# Altium integrated library Microchip PIC18.IntLib: 1897 symbols (part 38 of 110)
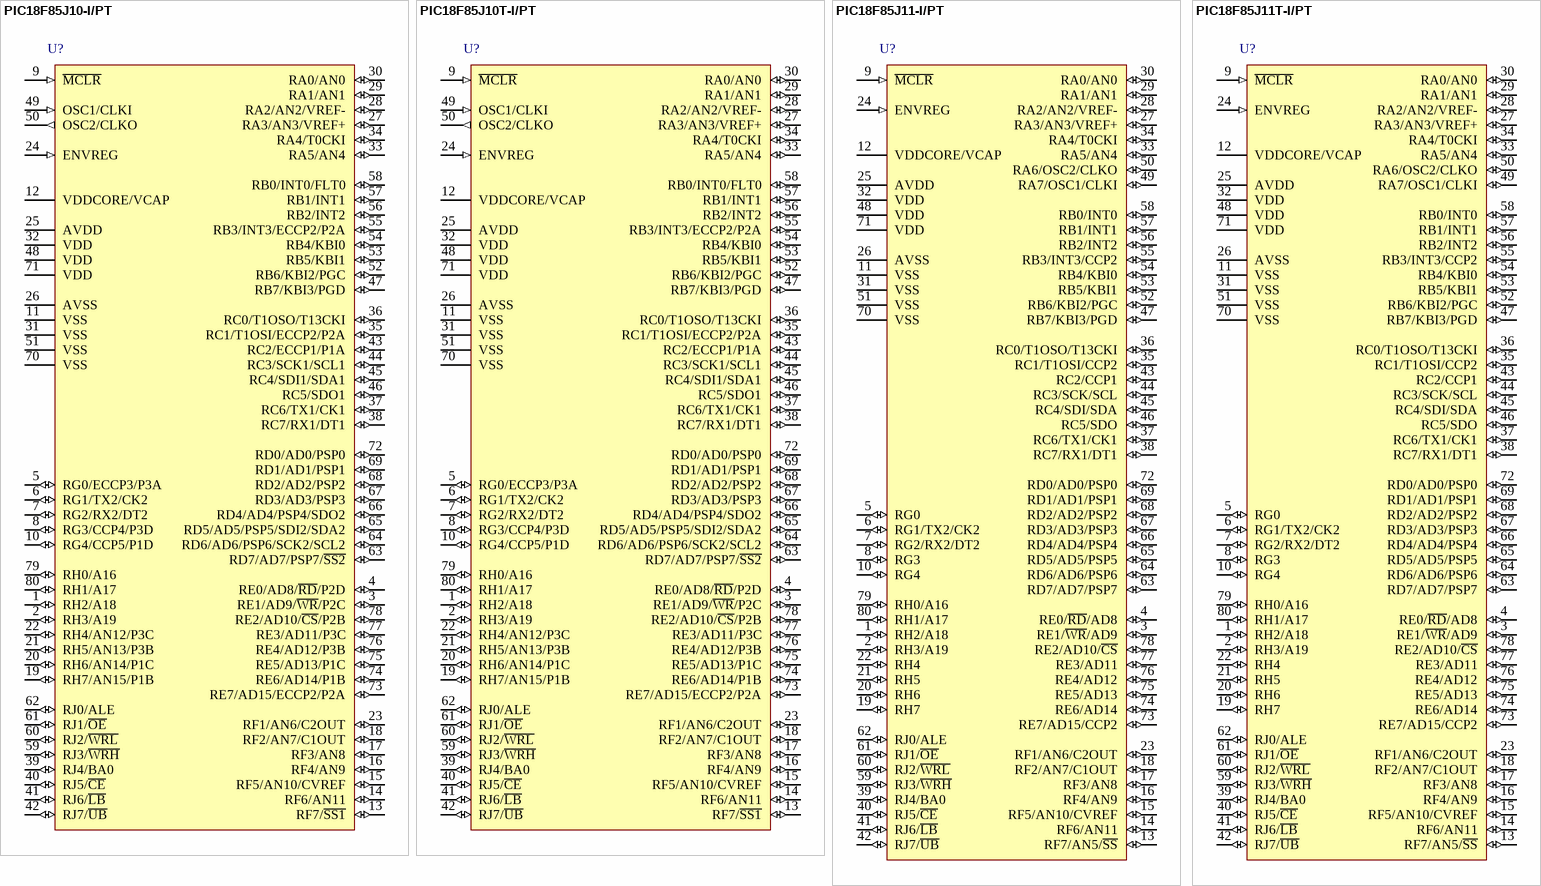
[diagram p341: symbols PIC18F85J10-I/PT to PIC18F85J11T-I/PT]

## PIC18F85J10-I/PT
designator U?
High Performance, 1-Mbit Flash Microcontroller with nanoWatt Technology, 32K Flash, 80-Pin TQFP, Industrial Temperature Range; Manufacturer: Microchip; PartNumber: PIC18F85J10-I/PT; DatasheetVersion: revF, Sep-2009; PackageVersion: C04-092B, 12/2012; PackageReference: TQFP-PT80; PackageDescription: 80-Lead Plastic Thin Quad FlatPack, 12 x 12 mm Body, 0.5 mm Pitch; ComponentLink1Description: Manufacturer URL; ComponentLink1URL: http://www.microchip.com/; ComponentLink2Description: Datasheet; ComponentLink2URL: http://ww1.microchip.com/downloads/en/DeviceDoc/39663f.pdf; ComponentLink3Description: Package Specification; ComponentLink3URL: http://www.microchip.com/stellent/groups/techpub_sg/documents/packagingspec/en012702.pdf
footprint MCHP-TQFP-PT80_N (QFN, 80-Leads, Body 12x12mm, Pitch 0.5mm, IPC Medium Density)
footprint MCHP-TQFP-PT80_L (QFN, 80-Leads, Body 12x12mm, Pitch 0.5mm, IPC High Density)
footprint MCHP-TQFP-PT80_M (QFN, 80-Leads, Body 12x12mm, Pitch 0.5mm, IPC Low Density)
pins: 1 RH2/A18 (io), 2 RH3/A19 (io), 3 RE1/AD9/~{WR}/P2C (io), 4 RE0/AD8/~{RD}/P2D (io), 5 RG0/ECCP3/P3A (io), 6 RG1/TX2/CK2 (io), 7 RG2/RX2/DT2 (io), 8 RG3/CCP4/P3D (io), 9 ~{MCLR} (in), 10 RG4/CCP5/P1D (io), 11 VSS (power), 12 VDDCORE/VCAP (power), 13 RF7/~{SS1} (io), 14 RF6/AN11 (io), 15 RF5/AN10/CVREF (io), 16 RF4/AN9 (io), 17 RF3/AN8 (io), 18 RF2/AN7/C1OUT (io), 19 RH7/AN15/P1B (io), 20 RH6/AN14/P1C (io), 21 RH5/AN13/P3B (io), 22 RH4/AN12/P3C (io), 23 RF1/AN6/C2OUT (io), 24 ENVREG (in), 25 AVDD (power), 26 AVSS (power), 27 RA3/AN3/VREF+ (io), 28 RA2/AN2/VREF- (io), 29 RA1/AN1 (io), 30 RA0/AN0 (io), 31 VSS (power), 32 VDD (power), 33 RA5/AN4 (io), 34 RA4/T0CKI (io), 35 RC1/T1OSI/ECCP2/P2A (io), 36 RC0/T1OSO/T13CKI (io), 37 RC6/TX1/CK1 (io), 38 RC7/RX1/DT1 (io), 39 RJ4/BA0 (io), 40 RJ5/~{CE} (io), 41 RJ6/~{LB} (io), 42 RJ7/~{UB} (io), 43 RC2/ECCP1/P1A (io), 44 RC3/SCK1/SCL1 (io), 45 RC4/SDI1/SDA1 (io), 46 RC5/SDO1 (io), 47 RB7/KBI3/PGD (io), 48 VDD (power), 49 OSC1/CLKI (in), 50 OSC2/CLKO (out), 51 VSS (power), 52 RB6/KBI2/PGC (io), 53 RB5/KBI1 (io), 54 RB4/KBI0 (io), 55 RB3/INT3/ECCP2/P2A (io), 56 RB2/INT2 (io), 57 RB1/INT1 (io), 58 RB0/INT0/FLT0 (io), 59 RJ3/~{WRH} (io), 60 RJ2/~{WRL} (io), 61 RJ1/~{OE} (io), 62 RJ0/ALE (io), 63 RD7/AD7/PSP7/~{SS2} (io), 64 RD6/AD6/PSP6/SCK2/SCL2 (io), 65 RD5/AD5/PSP5/SDI2/SDA2 (io), 66 RD4/AD4/PSP4/SDO2 (io), 67 RD3/AD3/PSP3 (io), 68 RD2/AD2/PSP2 (io), 69 RD1/AD1/PSP1 (io), 70 VSS (power), 71 VDD (power), 72 RD0/AD0/PSP0 (io), 73 RE7/AD15/ECCP2/P2A (io), 74 RE6/AD14/P1B (io), 75 RE5/AD13/P1C (io), 76 RE4/AD12/P3B (io), 77 RE3/AD11/P3C (io), 78 RE2/AD10/~{CS}/P2B (io), 79 RH0/A16 (io), 80 RH1/A17 (io)

## PIC18F85J10T-I/PT
designator U?
High Performance, 1-Mbit Flash Microcontroller with nanoWatt Technology, 32K Flash, 80-Pin TQFP, Industrial Temperature Range, Tape and Reel; Manufacturer: Microchip; PartNumber: PIC18F85J10T-I/PT; DatasheetVersion: revF, Sep-2009; PackageVersion: C04-092B, 12/2012; PackageReference: TQFP-PT80; PackageDescription: 80-Lead Plastic Thin Quad FlatPack, 12 x 12 mm Body, 0.5 mm Pitch; ComponentLink1Description: Manufacturer URL; ComponentLink1URL: http://www.microchip.com/; ComponentLink2Description: Datasheet; ComponentLink2URL: http://ww1.microchip.com/downloads/en/DeviceDoc/39663f.pdf; ComponentLink3Description: Package Specification; ComponentLink3URL: http://www.microchip.com/stellent/groups/techpub_sg/documents/packagingspec/en012702.pdf
footprint MCHP-TQFP-PT80_N (QFN, 80-Leads, Body 12x12mm, Pitch 0.5mm, IPC Medium Density)
footprint MCHP-TQFP-PT80_L (QFN, 80-Leads, Body 12x12mm, Pitch 0.5mm, IPC High Density)
footprint MCHP-TQFP-PT80_M (QFN, 80-Leads, Body 12x12mm, Pitch 0.5mm, IPC Low Density)
pins: 1 RH2/A18 (io), 2 RH3/A19 (io), 3 RE1/AD9/~{WR}/P2C (io), 4 RE0/AD8/~{RD}/P2D (io), 5 RG0/ECCP3/P3A (io), 6 RG1/TX2/CK2 (io), 7 RG2/RX2/DT2 (io), 8 RG3/CCP4/P3D (io), 9 ~{MCLR} (in), 10 RG4/CCP5/P1D (io), 11 VSS (power), 12 VDDCORE/VCAP (power), 13 RF7/~{SS1} (io), 14 RF6/AN11 (io), 15 RF5/AN10/CVREF (io), 16 RF4/AN9 (io), 17 RF3/AN8 (io), 18 RF2/AN7/C1OUT (io), 19 RH7/AN15/P1B (io), 20 RH6/AN14/P1C (io), 21 RH5/AN13/P3B (io), 22 RH4/AN12/P3C (io), 23 RF1/AN6/C2OUT (io), 24 ENVREG (in), 25 AVDD (power), 26 AVSS (power), 27 RA3/AN3/VREF+ (io), 28 RA2/AN2/VREF- (io), 29 RA1/AN1 (io), 30 RA0/AN0 (io), 31 VSS (power), 32 VDD (power), 33 RA5/AN4 (io), 34 RA4/T0CKI (io), 35 RC1/T1OSI/ECCP2/P2A (io), 36 RC0/T1OSO/T13CKI (io), 37 RC6/TX1/CK1 (io), 38 RC7/RX1/DT1 (io), 39 RJ4/BA0 (io), 40 RJ5/~{CE} (io), 41 RJ6/~{LB} (io), 42 RJ7/~{UB} (io), 43 RC2/ECCP1/P1A (io), 44 RC3/SCK1/SCL1 (io), 45 RC4/SDI1/SDA1 (io), 46 RC5/SDO1 (io), 47 RB7/KBI3/PGD (io), 48 VDD (power), 49 OSC1/CLKI (in), 50 OSC2/CLKO (out), 51 VSS (power), 52 RB6/KBI2/PGC (io), 53 RB5/KBI1 (io), 54 RB4/KBI0 (io), 55 RB3/INT3/ECCP2/P2A (io), 56 RB2/INT2 (io), 57 RB1/INT1 (io), 58 RB0/INT0/FLT0 (io), 59 RJ3/~{WRH} (io), 60 RJ2/~{WRL} (io), 61 RJ1/~{OE} (io), 62 RJ0/ALE (io), 63 RD7/AD7/PSP7/~{SS2} (io), 64 RD6/AD6/PSP6/SCK2/SCL2 (io), 65 RD5/AD5/PSP5/SDI2/SDA2 (io), 66 RD4/AD4/PSP4/SDO2 (io), 67 RD3/AD3/PSP3 (io), 68 RD2/AD2/PSP2 (io), 69 RD1/AD1/PSP1 (io), 70 VSS (power), 71 VDD (power), 72 RD0/AD0/PSP0 (io), 73 RE7/AD15/ECCP2/P2A (io), 74 RE6/AD14/P1B (io), 75 RE5/AD13/P1C (io), 76 RE4/AD12/P3B (io), 77 RE3/AD11/P3C (io), 78 RE2/AD10/~{CS}/P2B (io), 79 RH0/A16 (io), 80 RH1/A17 (io)

## PIC18F85J11-I/PT
designator U?
High Performance Microcontroller with nanoWatt Technology, 32K Flash, 80-Pin TQFP, Industrial Temperature Range; Manufacturer: Microchip; PartNumber: PIC18F85J11-I/PT; DatasheetVersion: revC, Apr-2007; PackageVersion: C04-092B, 12/2012; PackageReference: TQFP-PT80; PackageDescription: 80-Lead Plastic Thin Quad FlatPack, 12 x 12 mm Body, 0.5 mm Pitch; ComponentLink1Description: Manufacturer URL; ComponentLink1URL: http://www.microchip.com/; ComponentLink2Description: Datasheet; ComponentLink2URL: http://ww1.microchip.com/downloads/en/DeviceDoc/39774c.pdf; ComponentLink3Description: Package Specification; ComponentLink3URL: http://www.microchip.com/stellent/groups/techpub_sg/documents/packagingspec/en012702.pdf
footprint MCHP-TQFP-PT80_N (QFN, 80-Leads, Body 12x12mm, Pitch 0.5mm, IPC Medium Density)
footprint MCHP-TQFP-PT80_L (QFN, 80-Leads, Body 12x12mm, Pitch 0.5mm, IPC High Density)
footprint MCHP-TQFP-PT80_M (QFN, 80-Leads, Body 12x12mm, Pitch 0.5mm, IPC Low Density)
pins: 1 RH2/A18 (io), 2 RH3/A19 (io), 3 RE1/~{WR}/AD9 (io), 4 RE0/~{RD}/AD8 (io), 5 RG0 (io), 6 RG1/TX2/CK2 (io), 7 RG2/RX2/DT2 (io), 8 RG3 (io), 9 ~{MCLR} (in), 10 RG4 (io), 11 VSS (power), 12 VDDCORE/VCAP (power), 13 RF7/AN5/~{SS} (io), 14 RF6/AN11 (io), 15 RF5/AN10/CVREF (io), 16 RF4/AN9 (io), 17 RF3/AN8 (io), 18 RF2/AN7/C1OUT (io), 19 RH7 (io), 20 RH6 (io), 21 RH5 (io), 22 RH4 (io), 23 RF1/AN6/C2OUT (io), 24 ENVREG (in), 25 AVDD (power), 26 AVSS (power), 27 RA3/AN3/VREF+ (io), 28 RA2/AN2/VREF- (io), 29 RA1/AN1 (io), 30 RA0/AN0 (io), 31 VSS (power), 32 VDD (power), 33 RA5/AN4 (io), 34 RA4/T0CKI (io), 35 RC1/T1OSI/CCP2 (io), 36 RC0/T1OSO/T13CKI (io), 37 RC6/TX1/CK1 (io), 38 RC7/RX1/DT1 (io), 39 RJ4/BA0 (io), 40 RJ5/~{CE} (io), 41 RJ6/~{LB} (io), 42 RJ7/~{UB} (io), 43 RC2/CCP1 (io), 44 RC3/SCK/SCL (io), 45 RC4/SDI/SDA (io), 46 RC5/SDO (io), 47 RB7/KBI3/PGD (io), 48 VDD (power), 49 RA7/OSC1/CLKI (io), 50 RA6/OSC2/CLKO (io), 51 VSS (power), 52 RB6/KBI2/PGC (io), 53 RB5/KBI1 (io), 54 RB4/KBI0 (io), 55 RB3/INT3/CCP2 (io), 56 RB2/INT2 (io), 57 RB1/INT1 (io), 58 RB0/INT0 (io), 59 RJ3/~{WRH} (io), 60 RJ2/~{WRL} (io), 61 RJ1/~{OE} (io), 62 RJ0/ALE (io), 63 RD7/AD7/PSP7 (io), 64 RD6/AD6/PSP6 (io), 65 RD5/AD5/PSP5 (io), 66 RD4/AD4/PSP4 (io), 67 RD3/AD3/PSP3 (io), 68 RD2/AD2/PSP2 (io), 69 RD1/AD1/PSP1 (io), 70 VSS (power), 71 VDD (power), 72 RD0/AD0/PSP0 (io), 73 RE7/AD15/CCP2 (io), 74 RE6/AD14 (io), 75 RE5/AD13 (io), 76 RE4/AD12 (io), 77 RE3/AD11 (io), 78 RE2/AD10/~{CS} (io), 79 RH0/A16 (io), 80 RH1/A17 (io)

## PIC18F85J11T-I/PT
designator U?
High Performance Microcontroller with nanoWatt Technology, 32K Flash, 80-Pin TQFP, Industrial Temperature Range, Tape and Reel; Manufacturer: Microchip; PartNumber: PIC18F85J11T-I/PT; DatasheetVersion: revC, Apr-2007; PackageVersion: C04-092B, 12/2012; PackageReference: TQFP-PT80; PackageDescription: 80-Lead Plastic Thin Quad FlatPack, 12 x 12 mm Body, 0.5 mm Pitch; ComponentLink1Description: Manufacturer URL; ComponentLink1URL: http://www.microchip.com/; ComponentLink2Description: Datasheet; ComponentLink2URL: http://ww1.microchip.com/downloads/en/DeviceDoc/39774c.pdf; ComponentLink3Description: Package Specification; ComponentLink3URL: http://www.microchip.com/stellent/groups/techpub_sg/documents/packagingspec/en012702.pdf
footprint MCHP-TQFP-PT80_N (QFN, 80-Leads, Body 12x12mm, Pitch 0.5mm, IPC Medium Density)
footprint MCHP-TQFP-PT80_L (QFN, 80-Leads, Body 12x12mm, Pitch 0.5mm, IPC High Density)
footprint MCHP-TQFP-PT80_M (QFN, 80-Leads, Body 12x12mm, Pitch 0.5mm, IPC Low Density)
pins: 1 RH2/A18 (io), 2 RH3/A19 (io), 3 RE1/~{WR}/AD9 (io), 4 RE0/~{RD}/AD8 (io), 5 RG0 (io), 6 RG1/TX2/CK2 (io), 7 RG2/RX2/DT2 (io), 8 RG3 (io), 9 ~{MCLR} (in), 10 RG4 (io), 11 VSS (power), 12 VDDCORE/VCAP (power), 13 RF7/AN5/~{SS} (io), 14 RF6/AN11 (io), 15 RF5/AN10/CVREF (io), 16 RF4/AN9 (io), 17 RF3/AN8 (io), 18 RF2/AN7/C1OUT (io), 19 RH7 (io), 20 RH6 (io), 21 RH5 (io), 22 RH4 (io), 23 RF1/AN6/C2OUT (io), 24 ENVREG (in), 25 AVDD (power), 26 AVSS (power), 27 RA3/AN3/VREF+ (io), 28 RA2/AN2/VREF- (io), 29 RA1/AN1 (io), 30 RA0/AN0 (io), 31 VSS (power), 32 VDD (power), 33 RA5/AN4 (io), 34 RA4/T0CKI (io), 35 RC1/T1OSI/CCP2 (io), 36 RC0/T1OSO/T13CKI (io), 37 RC6/TX1/CK1 (io), 38 RC7/RX1/DT1 (io), 39 RJ4/BA0 (io), 40 RJ5/~{CE} (io), 41 RJ6/~{LB} (io), 42 RJ7/~{UB} (io), 43 RC2/CCP1 (io), 44 RC3/SCK/SCL (io), 45 RC4/SDI/SDA (io), 46 RC5/SDO (io), 47 RB7/KBI3/PGD (io), 48 VDD (power), 49 RA7/OSC1/CLKI (io), 50 RA6/OSC2/CLKO (io), 51 VSS (power), 52 RB6/KBI2/PGC (io), 53 RB5/KBI1 (io), 54 RB4/KBI0 (io), 55 RB3/INT3/CCP2 (io), 56 RB2/INT2 (io), 57 RB1/INT1 (io), 58 RB0/INT0 (io), 59 RJ3/~{WRH} (io), 60 RJ2/~{WRL} (io), 61 RJ1/~{OE} (io), 62 RJ0/ALE (io), 63 RD7/AD7/PSP7 (io), 64 RD6/AD6/PSP6 (io), 65 RD5/AD5/PSP5 (io), 66 RD4/AD4/PSP4 (io), 67 RD3/AD3/PSP3 (io), 68 RD2/AD2/PSP2 (io), 69 RD1/AD1/PSP1 (io), 70 VSS (power), 71 VDD (power), 72 RD0/AD0/PSP0 (io), 73 RE7/AD15/CCP2 (io), 74 RE6/AD14 (io), 75 RE5/AD13 (io), 76 RE4/AD12 (io), 77 RE3/AD11 (io), 78 RE2/AD10/~{CS} (io), 79 RH0/A16 (io), 80 RH1/A17 (io)

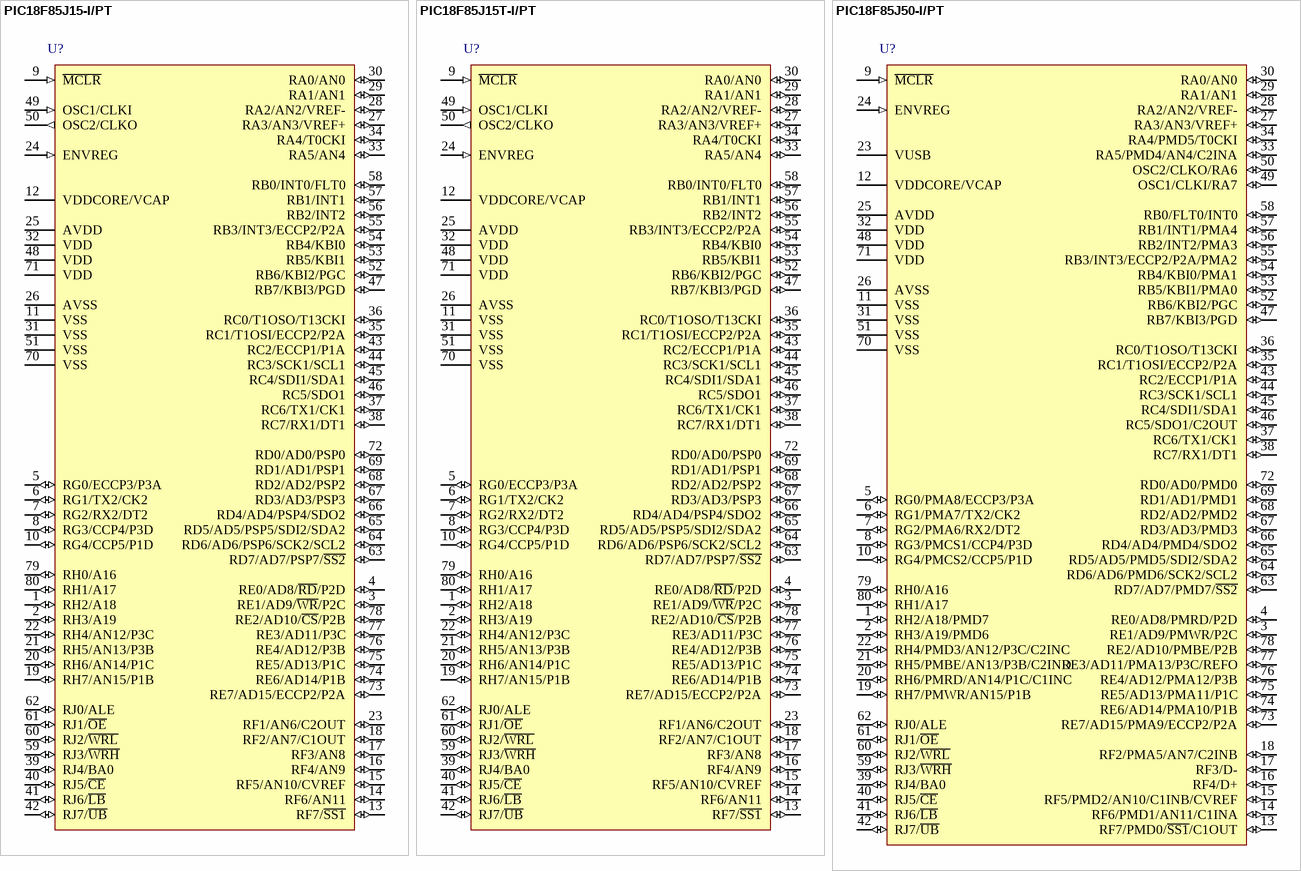
[diagram p65: symbols PIC18F85J15-I/PT to PIC18F85J50-I/PT]

## PIC18F85J15-I/PT
designator U?
High Performance, 1-Mbit Flash Microcontroller with nanoWatt Technology, 48K Flash, 80-Pin TQFP, Industrial Temperature Range; Manufacturer: Microchip; PartNumber: PIC18F85J15-I/PT; DatasheetVersion: revF, Sep-2009; PackageVersion: C04-092B, 12/2012; PackageReference: TQFP-PT80; PackageDescription: 80-Lead Plastic Thin Quad FlatPack, 12 x 12 mm Body, 0.5 mm Pitch; ComponentLink1Description: Manufacturer URL; ComponentLink1URL: http://www.microchip.com/; ComponentLink2Description: Datasheet; ComponentLink2URL: http://ww1.microchip.com/downloads/en/DeviceDoc/39663f.pdf; ComponentLink3Description: Package Specification; ComponentLink3URL: http://www.microchip.com/stellent/groups/techpub_sg/documents/packagingspec/en012702.pdf
footprint MCHP-TQFP-PT80_N (QFN, 80-Leads, Body 12x12mm, Pitch 0.5mm, IPC Medium Density)
footprint MCHP-TQFP-PT80_L (QFN, 80-Leads, Body 12x12mm, Pitch 0.5mm, IPC High Density)
footprint MCHP-TQFP-PT80_M (QFN, 80-Leads, Body 12x12mm, Pitch 0.5mm, IPC Low Density)
pins: 1 RH2/A18 (io), 2 RH3/A19 (io), 3 RE1/AD9/~{WR}/P2C (io), 4 RE0/AD8/~{RD}/P2D (io), 5 RG0/ECCP3/P3A (io), 6 RG1/TX2/CK2 (io), 7 RG2/RX2/DT2 (io), 8 RG3/CCP4/P3D (io), 9 ~{MCLR} (in), 10 RG4/CCP5/P1D (io), 11 VSS (power), 12 VDDCORE/VCAP (power), 13 RF7/~{SS1} (io), 14 RF6/AN11 (io), 15 RF5/AN10/CVREF (io), 16 RF4/AN9 (io), 17 RF3/AN8 (io), 18 RF2/AN7/C1OUT (io), 19 RH7/AN15/P1B (io), 20 RH6/AN14/P1C (io), 21 RH5/AN13/P3B (io), 22 RH4/AN12/P3C (io), 23 RF1/AN6/C2OUT (io), 24 ENVREG (in), 25 AVDD (power), 26 AVSS (power), 27 RA3/AN3/VREF+ (io), 28 RA2/AN2/VREF- (io), 29 RA1/AN1 (io), 30 RA0/AN0 (io), 31 VSS (power), 32 VDD (power), 33 RA5/AN4 (io), 34 RA4/T0CKI (io), 35 RC1/T1OSI/ECCP2/P2A (io), 36 RC0/T1OSO/T13CKI (io), 37 RC6/TX1/CK1 (io), 38 RC7/RX1/DT1 (io), 39 RJ4/BA0 (io), 40 RJ5/~{CE} (io), 41 RJ6/~{LB} (io), 42 RJ7/~{UB} (io), 43 RC2/ECCP1/P1A (io), 44 RC3/SCK1/SCL1 (io), 45 RC4/SDI1/SDA1 (io), 46 RC5/SDO1 (io), 47 RB7/KBI3/PGD (io), 48 VDD (power), 49 OSC1/CLKI (in), 50 OSC2/CLKO (out), 51 VSS (power), 52 RB6/KBI2/PGC (io), 53 RB5/KBI1 (io), 54 RB4/KBI0 (io), 55 RB3/INT3/ECCP2/P2A (io), 56 RB2/INT2 (io), 57 RB1/INT1 (io), 58 RB0/INT0/FLT0 (io), 59 RJ3/~{WRH} (io), 60 RJ2/~{WRL} (io), 61 RJ1/~{OE} (io), 62 RJ0/ALE (io), 63 RD7/AD7/PSP7/~{SS2} (io), 64 RD6/AD6/PSP6/SCK2/SCL2 (io), 65 RD5/AD5/PSP5/SDI2/SDA2 (io), 66 RD4/AD4/PSP4/SDO2 (io), 67 RD3/AD3/PSP3 (io), 68 RD2/AD2/PSP2 (io), 69 RD1/AD1/PSP1 (io), 70 VSS (power), 71 VDD (power), 72 RD0/AD0/PSP0 (io), 73 RE7/AD15/ECCP2/P2A (io), 74 RE6/AD14/P1B (io), 75 RE5/AD13/P1C (io), 76 RE4/AD12/P3B (io), 77 RE3/AD11/P3C (io), 78 RE2/AD10/~{CS}/P2B (io), 79 RH0/A16 (io), 80 RH1/A17 (io)